# Altium footprint library Capacitor Polarized_L.PcbLib: 1 footprints
Each footprint in its own frame and in the unit in brackets; x right, y up, seen from the top. Pads: shape width x height; smd on the part's side, far side on the other; paste and mask are expansions set on the pad; w line width, h text height; cw(c..) or ccw(c..) is an arc to the next point about the centre after c.
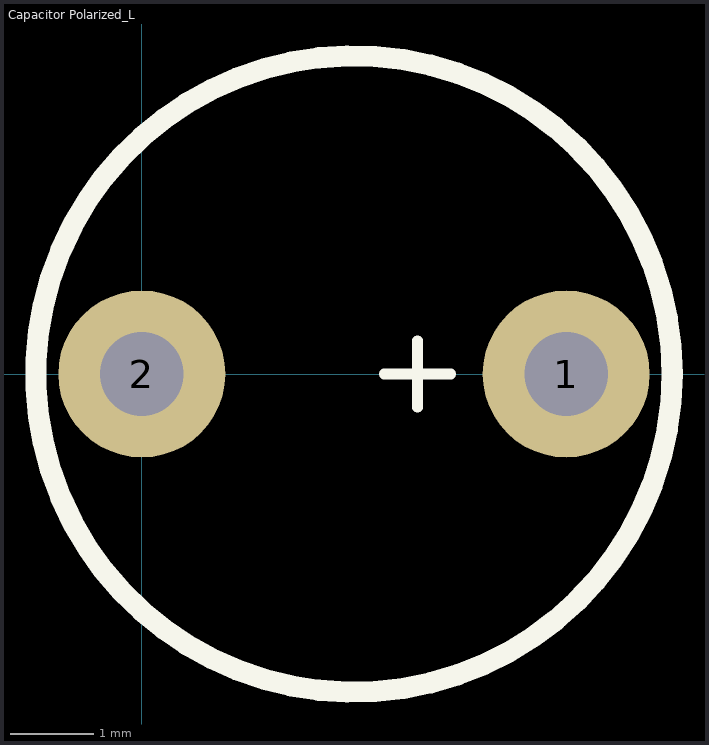
[diagram p0: the footprint, top view; thin cyan lines are the x and y axes]

## Capacitor Polarized_L [mm]
pads (2):
  round 2 hole 1: 1(5.08,0) 2(0,0)
Top Overlay:
  circle w0.254: c2.54,0 r3.81
  lines w0.127: 2.9,0 3.7,0 ; 3.3,-0.4 3.3,0.4
3D body: height 10, standoff 0, extent -1.31,-3.81 6.31,3.81